# EAGLE library part JP6Q (library jumper)
JUMPER
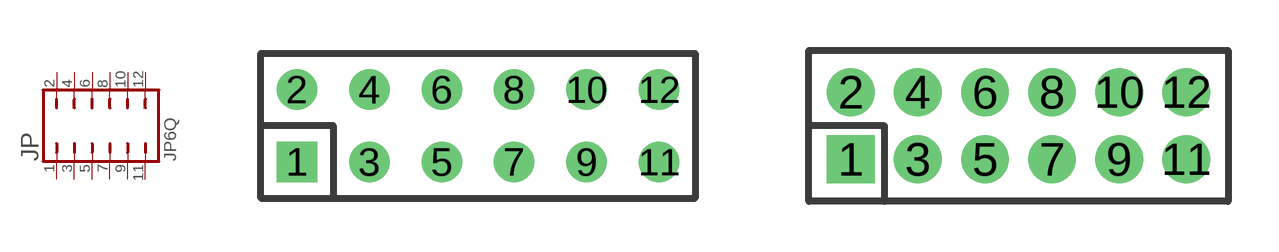
[diagram p11: symbol with the pads of JP6Q; footprints JP6Q, JP6QM]

Designator prefix JP

## JP6Q  [JP6Q]
1  1  pas
2  2  pas
3  3  pas
4  4  pas
5  5  pas
6  6  pas
7  7  pas
8  8  pas
9  9  pas
10  10  pas
11  11  pas
12  12  pas

## JP6QM  [JP6QM]
Pads as for JP6Q

## Footprint JP6Q (pad centres in mm)
JUMPER - 0.1" Pitch
drill 0.914 square: 1 -6.35,-1.27
drill 0.914: 2 -6.35,1.27; 3 -3.81,-1.27; 4 -3.81,1.27; 5 -1.27,-1.27; 6 -1.27,1.27; 7 1.27,-1.27; 8 1.27,1.27; 9 3.81,-1.27; 10 3.81,1.27; 11 6.35,-1.27; 12 6.35,1.27

## Footprint JP6QM (pad centres in mm)
JUMPER - 2.00mm (.079") Pitch
drill 0.914 square: 1 -5,-1
drill 0.914: 2 -5,1; 3 -3,-1; 4 -3,1; 5 -1,-1; 6 -1,1; 7 1,-1; 8 1,1; 9 3,-1; 10 3,1; 11 5,-1; 12 5,1